# Altium schematic symbol library controls.SchLib: 5 symbols
Pins are listed as number, name and electrical type; pins without a type are passive.

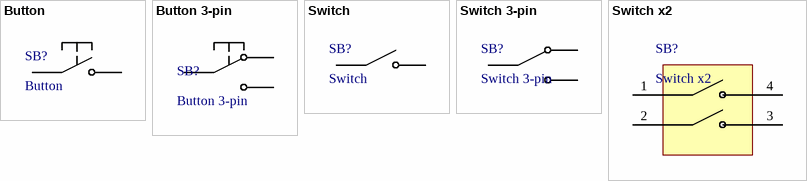
[diagram p0: symbols Button to Switch x2]

## Button
designator SB?
footprint BUTTON_SMD_3x6
footprint BUTTON_SMD_6x6; pin to pad 2>3
pins: 1, 2

## Button 3-pin
designator SB?
pins: 1, 2, 3

## Switch
designator SB?
footprint PLS-2 2.54 (Pitch 2.54)
pins: 1, 2

## Switch 3-pin
designator SB?
footprint PLS-3 2.54 (Pitch 2.54)
footprint KBB40_2P2W_SMD (Slider switch 3x2-pin)
footprint KBB40_2P2W (Slider switch 3x2-pin)
footprint ESP2010
footprint KLS7-SS-12F19-G5
pins: 1, 2, 3

## Switch x2
designator SB?
footprint DIP_SWITCH_x2
pins: 1, 2 1, 3 2, 4 2